# Altium schematic symbol library QSH-020-01-F-D-DP-A-K-TR.SchLib: 1 symbol
Pins are listed as number, name and electrical type; pins without a type are passive.

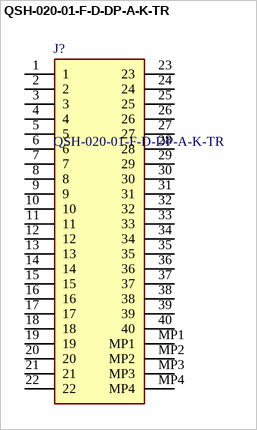
[diagram p0: symbol QSH-020-01-F-D-DP-A-K-TR]

## QSH-020-01-F-D-DP-A-K-TR
designator J?
Board to Board & Mezzanine Connectors 0.50 mm Q Strip  High-Speed Ground Plane Socket Strip; Manufacturer_Name: SAMTEC; Geometry.Height: 3.05mm; Mouser Part Number: 200-QSH02001FDDPAKTR; Mouser Price/Stock: https://www.mouser.co.uk/ProductDetail/Samtec/QSH-020-01-F-D-DP-A-K-TR?qs=rU5fayqh%252BE3jtEF466DAyA%3D%3D; Manufacturer_Part_Number: QSH-020-01-F-D-DP-A-K-TR; Datasheet Link: *
footprint QSH02001FDDPAKTR
pins: 1, 2, 3, 4, 5, 6, 7, 8, 9, 10, 11, 12, 13, 14, 15, 16, 17, 18, 19, 20, 21, 22, 23, 24, 25, 26, 27, 28, 29, 30, 31, 32, 33, 34, 35, 36, 37, 38, 39, 40, MP1, MP2, MP3, MP4